# EAGLE library part NXS0104PWJ (library NXS0104PWJ)
NXS0104 - Dual supply translating transceiver; open drain; autodirectionsensing@en-us Source: Datasheet <https://assets.nexperia.com/documents/data-sheet/NXS0104.pdf>
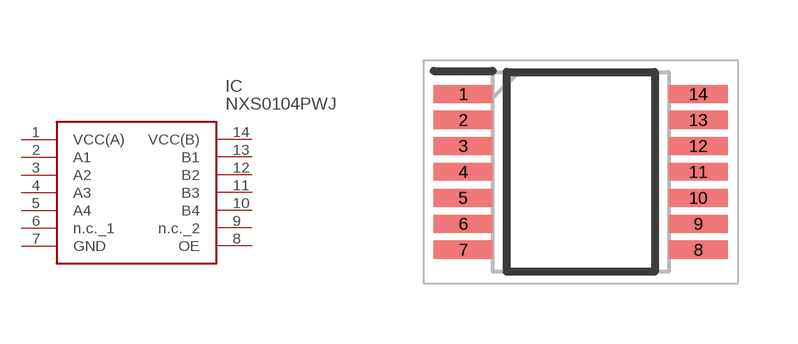
[diagram p0: symbol with the pads of SOP65P640X110-14N; footprint SOP65P640X110-14N]

Designator prefix IC

## NXS0104PWJ (Description: NXS0104 - Dual supply translating transceiver; open drain; autodirectionsensing@en-us; Height: 1.1mm; Manufacturer_Name: Nexperia; Manufacturer_Part_Number: NXS0104PWJ; Mouser_Part_Number: 771-NXS0104PWJ; Mouser_Price-Stock: https://www.mouser.co.uk/ProductDetail/Nexperia/NXS0104PWJ?qs=vLWxofP3U2yYSKEMXw647Q%3D%3D)  [SOP65P640X110-14N]
1  VCC(A)
2  A1
3  A2
4  A3
5  A4
6  n.c._1
7  GND
8  OE
9  n.c._2
10  B4
11  B3
12  B2
13  B1
14  VCC(B)

## Footprint SOP65P640X110-14N (pad centres in mm)
SOT402-1
smd 1.475 x 0.45: 1 -2.938,1.95; 2 -2.938,1.3; 3 -2.938,0.65; 4 -2.938,0; 5 -2.938,-0.65; 6 -2.938,-1.3; 7 -2.938,-1.95; 8 2.938,-1.95; 9 2.938,-1.3; 10 2.938,-0.65; 11 2.938,0; 12 2.938,0.65; 13 2.938,1.3; 14 2.938,1.95